# Altium footprint library SamacSys.PcbLib: 20 footprints (part 2 of 2)
Each footprint in its own frame and in the unit in brackets; x right, y up, seen from the top. Pads: shape width x height; smd on the part's side, far side on the other; paste and mask are expansions set on the pad; w line width, h text height; cw(c..) or ccw(c..) is an arc to the next point about the centre after c.
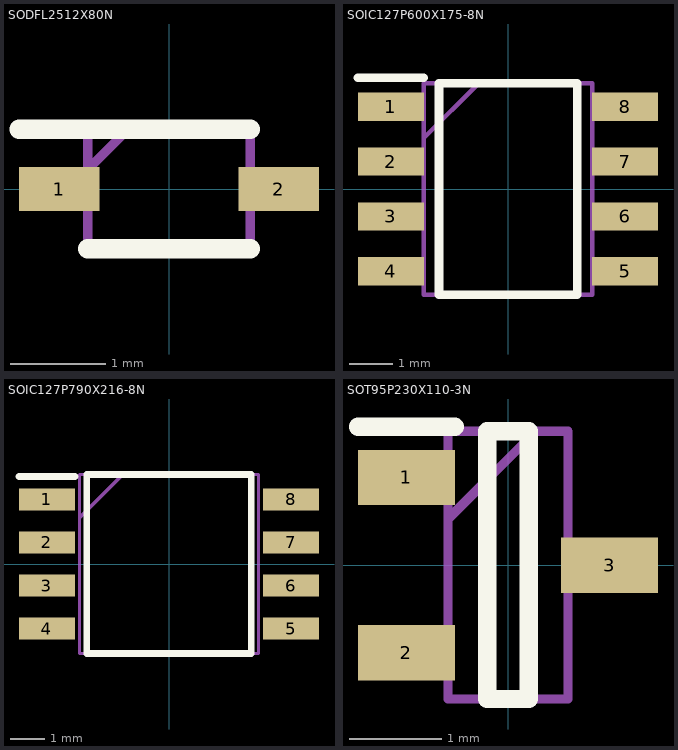
[diagram p1: the footprints below, top view; thin cyan lines are the x and y axes]

## SODFL2512X80N [mm]
pads (2):
  rect 0.84x0.46 smd: 1(-1.15,0) 2(1.15,0)
Top Overlay:
  lines w0.2: -1.57,0.625 0.85,0.625 ; -0.85,-0.625 0.85,-0.625
Mechanical 13:
  lines w0.1: -0.85,0.205 -0.43,0.625 ; -0.85,-0.625 -0.85,0.625 0.85,0.625 0.85,-0.625 -0.85,-0.625
3D body "PMEG3020EJ,115.stp": height 0.68, standoff -0.03, extent -1.25,-0.635 1.25,0.615

## SOIC127P600X175-8N [mm]
pads (8):
  rect 1.525x0.65 smd: 1(-2.712,1.905) 2(-2.712,0.635) 3(-2.712,-0.635) 4(-2.712,-1.905) 5(2.712,-1.905) 6(2.712,-0.635) 7(2.712,0.635) 8(2.712,1.905)
Top Overlay:
  lines w0.2: -3.475,2.58 -1.95,2.58 ; -1.6,-2.45 -1.6,2.45 1.6,2.45 1.6,-2.45 -1.6,-2.45
Mechanical 13:
  lines w0.1: -1.95,1.18 -0.68,2.45 ; -1.95,-2.45 -1.95,2.45 1.95,2.45 1.95,-2.45 -1.95,-2.45
3D body "NE555DR.stp": height 1.75, standoff 0, extent -3,-2.45 3,2.45

## SOIC127P790X216-8N [mm]
pads (8):
  rect 1.65x0.65 smd: 1(-3.6,1.905) 2(-3.6,0.635) 3(-3.6,-0.635) 4(-3.6,-1.905) 5(3.6,-1.905) 6(3.6,-0.635) 7(3.6,0.635) 8(3.6,1.905)
Top Overlay:
  lines w0.2: -4.425,2.58 -2.775,2.58 ; -2.425,-2.64 -2.425,2.64 2.425,2.64 2.425,-2.64 -2.425,-2.64
Mechanical 13:
  lines w0.1: -2.64,1.37 -1.37,2.64 ; -2.64,-2.64 -2.64,2.64 2.64,2.64 2.64,-2.64 -2.64,-2.64
3D body "W25Q128JVSIM_TR.stp": height 2.16, standoff 0, extent -3.95,-2.64 3.95,2.64

## SOT95P230X110-3N [mm]
pads (3):
  rect 1.05x0.6 smd: 1(-1.1,0.95) 2(-1.1,-0.95) 3(1.1,0)
Top Overlay:
  lines w0.2: -1.625,1.5 -0.575,1.5 ; -0.225,-1.45 0.225,-1.45 0.225,1.45 -0.225,1.45 -0.225,-1.45
Mechanical 13:
  lines w0.1: -0.65,0.5 0.3,1.45 ; -0.65,-1.45 0.65,-1.45 0.65,1.45 -0.65,1.45 -0.65,-1.45
3D body "MMBT3904,215.stp": height 1.1, standoff 0, extent -1.15,-1.45 1.15,1.45